# Altium integrated library TI Power Management Linear Regulator Single Channel LDO (400-7500mA).IntLib: 1408 symbols (part 7 of 60)
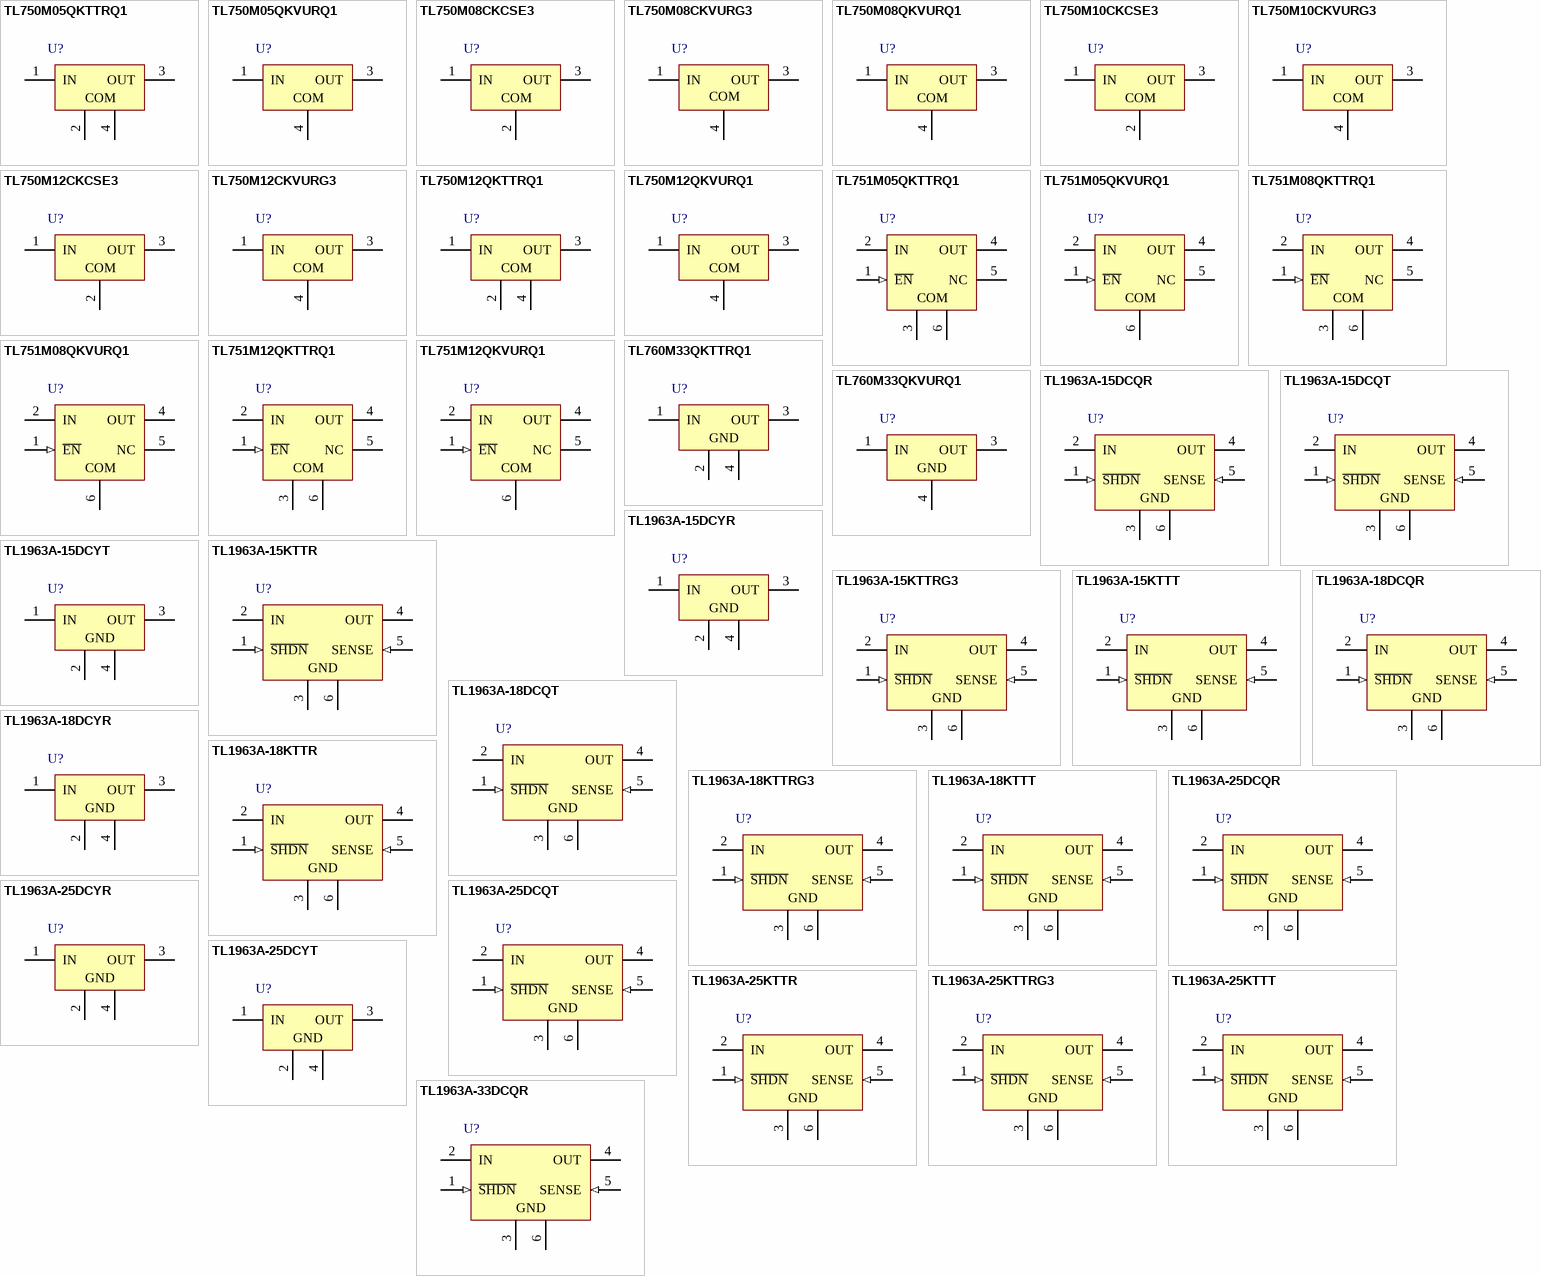
[diagram p56: symbols TL750M05QKTTRQ1 to TL1963A-33DCQR]

## TL1963A-15DCYT
designator U?
Single Output Low Noise LDO, 1.5 A, Fixed 1.5 V Output, 2.1 to 20 V Input, 4-pin SOT-223 (DCY), -40 to 125 degC, Green (RoHS & no Sb/Br); Manufacturer: Texas Instruments; PartNumber: TL1963A-15DCYT; Accuracy(%): 3; Fixed Output Options(V): 1.5; Iq(Typ)(mA): 1; SubFamily: Single Channel LDO; Vdo(Typ)(mV): 340; Vin(Max)(V): 20; Vin(Min)(V): 2.1; DatasheetVersion: SLVS719F; PackageVersion: 4202506/B; PackageReference: DCY4; PackageDescription: 4-Pin Plastic Small Outline, Body 3.5 x 6.5 mm, Pitch 2.3 mm; Supplier 1: Digi-Key; Supplier Part Number 1: TL1963A-15DCYT-ND; Supplier 2: Mouser; Supplier Part Number 2: 595-TL1963A-15DCYT; Eco-Plan: Green (RoHS & no Sb/Br); Iout(Max)(A): 1.5; Vout Adj(Max)(V): 1.5; Vout Adj(Min)(V): 1.5; Mounting Technology: Surface Mount; Code_JEDEC: TO-261; ComponentLink1Description: Manufacturer URL; ComponentLink1URL: http://www.ti.com/; ComponentLink2Description: Datasheet; ComponentLink2URL: http://www.ti.com/general/docs/lit/getliterature.tsp?genericPartNumber=TL1963A-15&fileType=pdf; ComponentLink3Description: Package Specification; ComponentLink3URL: http://www.ti.com/litv/pdf/mpds094a
footprint TI-DCY4_N (SOT223, 4-Leads, Body 6.5x3.5mm, Pitch 2.3mm, IPC Medium Density)
footprint TI-DCY4_L (SOT223, 4-Leads, Body 6.5x3.5mm, Pitch 2.3mm, IPC High Density)
footprint TI-DCY4_M (SOT223, 4-Leads, Body 6.5x3.5mm, Pitch 2.3mm, IPC Low Density)
pins: 1 IN (power) "Input. Power is supplied to the device through the IN pin. A bypass capacitor is required on this pin if the device is more than six inches away from the main input filter capacitor. In general, the output impedance of a (See Datasheet)", 2 GND (power) "Ground", 3 OUT (power) "Output. The output supplies power to the load. A minimum output capacitor (ceramic) of 10 uF is required to prevent oscillations. Larger output capacitors are required for applications with large transient loads to limit (See Datasheet)", 4 GND (power) "Ground"

## TL1963A-15KTTR
designator U?
Single Output Low Noise LDO, 1.5 A, Fixed 1.5 V Output, 2.1 to 20 V Input, 5-pin DDPAK (KTT), -40 to 125 degC, Green (RoHS & no Sb/Br); Manufacturer: Texas Instruments; PartNumber: TL1963A-15KTTR; Accuracy(%): 3; Fixed Output Options(V): 1.5; Iq(Typ)(mA): 1; SubFamily: Single Channel LDO; Vdo(Typ)(mV): 340; Vin(Max)(V): 20; Vin(Min)(V): 2.1; DatasheetVersion: SLVS719F; PackageVersion: 4200577-3/F; PackageReference: KTT5; PackageDescription: 3-Pin Plastic Flange Mount, Body 10.16 x 10.34 mm, Pitch 1.7 mm; Supplier 1: Digi-Key; Supplier Part Number 1: 296-23743-2-ND; Supplier 2: Digi-Key; Supplier Part Number 2: 296-23743-1-ND; Supplier 3: Digi-Key; Supplier Part Number 3: 296-23743-6-ND; Supplier 4: Newark; Supplier Part Number 4: 33R2186; Supplier 5: Mouser; Supplier Part Number 5: 595-TL1963A-15KTTR; Eco-Plan: Green (RoHS & no Sb/Br); Iout(Max)(A): 1.5; Vout Adj(Max)(V): 1.5; Vout Adj(Min)(V): 1.5; Mounting Technology: Surface Mount; Code_JEDEC: TO-263; ComponentLink1Description: Manufacturer URL; ComponentLink1URL: http://www.ti.com/; ComponentLink2Description: Datasheet; ComponentLink2URL: http://www.ti.com/general/docs/lit/getliterature.tsp?genericPartNumber=TL1963A-15&fileType=pdf; ComponentLink3Description: Package Specification; ComponentLink3URL: http://www.ti.com/litv/pdf/mpsf007e
footprint TI-KTT5_N (DPAK, 5-Leads, Body 10.16x8.925mm, Pitch 1.7mm, IPC Medium Density)
footprint TI-KTT5_L (DPAK, 5-Leads, Body 10.16x8.925mm, Pitch 1.7mm, IPC High Density)
footprint TI-KTT5_M (DPAK, 5-Leads, Body 10.16x8.925mm, Pitch 1.7mm, IPC Low Density)
pins: 1 ~{SHDN} (in) "Shutdown. S\H\D\N\ is used to put the TPS7A45xx regulators into a low-power shutdown state. The output is off when S\H\D\N\ is pulled low. S\H\D\N\ can be driven by 5-V logic, 3-V logic or open-collector logic with a pullup  (See Datasheet)", 2 IN (power) "Input. Power is supplied to the device through IN. A bypass capacitor is required on this pin if the device is more than six inches away from the main input filter capacitor. In general, the output impedance of a battery (See Datasheet)", 3 GND (power) "Ground", 4 OUT (power) "Output. The output supplies power to the load. A minimum output capacitor (ceramic) of 10 uF is required to  prevent oscillations. Larger output capacitors are required for applications with large transient loads to limit (See Datasheet)", 5 SENSE (in) "Sense. For fixed-voltage versions (TPS7A4515, TPS7A4518, TPS7A4525, and TPS7A4533), SENSE is the input to the error amplifier. Optimum regulation is obtained at the point where SENSE is connected to the OUT pin of the (See Datasheet)", 6 GND (power) "Ground. DCQ package only."

## TL1963A-15KTTRG3
designator U?
Single Output Low Noise LDO, 1.5 A, Fixed 1.5 V Output, 2.1 to 20 V Input, 5-pin DDPAK (KTT), -40 to 125 degC, Green (RoHS & no Sb/Br); Manufacturer: Texas Instruments; PartNumber: TL1963A-15KTTRG3; Accuracy(%): 3; Fixed Output Options(V): 1.5; Iq(Typ)(mA): 1; SubFamily: Single Channel LDO; Vdo(Typ)(mV): 340; Vin(Max)(V): 20; Vin(Min)(V): 2.1; DatasheetVersion: SLVS719F; PackageVersion: 4200577-3/F; PackageReference: KTT5; PackageDescription: 3-Pin Plastic Flange Mount, Body 10.16 x 10.34 mm, Pitch 1.7 mm; Supplier 1: Digi-Key; Supplier Part Number 1: TL1963A-15KTTRG3-ND; Supplier 2: Mouser; Supplier Part Number 2: 595-TL1963A-15KTTRG3; Eco-Plan: Green (RoHS & no Sb/Br); Iout(Max)(A): 1.5; Vout Adj(Max)(V): 1.5; Vout Adj(Min)(V): 1.5; Mounting Technology: Surface Mount; Code_JEDEC: TO-263; ComponentLink1Description: Manufacturer URL; ComponentLink1URL: http://www.ti.com/; ComponentLink2Description: Datasheet; ComponentLink2URL: http://www.ti.com/general/docs/lit/getliterature.tsp?genericPartNumber=TL1963A-15&fileType=pdf; ComponentLink3Description: Package Specification; ComponentLink3URL: http://www.ti.com/litv/pdf/mpsf007e
footprint TI-KTT5_N (DPAK, 5-Leads, Body 10.16x8.925mm, Pitch 1.7mm, IPC Medium Density)
footprint TI-KTT5_L (DPAK, 5-Leads, Body 10.16x8.925mm, Pitch 1.7mm, IPC High Density)
footprint TI-KTT5_M (DPAK, 5-Leads, Body 10.16x8.925mm, Pitch 1.7mm, IPC Low Density)
pins: 1 ~{SHDN} (in) "Shutdown. S\H\D\N\ is used to put the TPS7A45xx regulators into a low-power shutdown state. The output is off when S\H\D\N\ is pulled low. S\H\D\N\ can be driven by 5-V logic, 3-V logic or open-collector logic with a pullup  (See Datasheet)", 2 IN (power) "Input. Power is supplied to the device through IN. A bypass capacitor is required on this pin if the device is more than six inches away from the main input filter capacitor. In general, the output impedance of a battery (See Datasheet)", 3 GND (power) "Ground", 4 OUT (power) "Output. The output supplies power to the load. A minimum output capacitor (ceramic) of 10 uF is required to  prevent oscillations. Larger output capacitors are required for applications with large transient loads to limit (See Datasheet)", 5 SENSE (in) "Sense. For fixed-voltage versions (TPS7A4515, TPS7A4518, TPS7A4525, and TPS7A4533), SENSE is the input to the error amplifier. Optimum regulation is obtained at the point where SENSE is connected to the OUT pin of the (See Datasheet)", 6 GND (power) "Ground. DCQ package only."

## TL1963A-15KTTT
designator U?
Single Output Low Noise LDO, 1.5 A, Fixed 1.5 V Output, 2.1 to 20 V Input, 5-pin DDPAK (KTT), -40 to 125 degC; Manufacturer: Texas Instruments; PartNumber: TL1963A-15KTTT; Accuracy(%): 3; Fixed Output Options(V): 1.5; Iq(Typ)(mA): 1; SubFamily: Single Channel LDO; Vdo(Typ)(mV): 340; Vin(Max)(V): 20; Vin(Min)(V): 2.1; DatasheetVersion: SLVS719F; PackageVersion: 4200577-3/F; PackageReference: KTT5; PackageDescription: 3-Pin Plastic Flange Mount, Body 10.16 x 10.34 mm, Pitch 1.7 mm; Supplier 1: Mouser; Supplier Part Number 1: N/A; Iout(Max)(A): 1.5; Vout Adj(Max)(V): 1.5; Vout Adj(Min)(V): 1.5; Mounting Technology: Surface Mount; Code_JEDEC: TO-263; ComponentLink1Description: Manufacturer URL; ComponentLink1URL: http://www.ti.com/; ComponentLink2Description: Datasheet; ComponentLink2URL: http://www.ti.com/general/docs/lit/getliterature.tsp?genericPartNumber=TL1963A-15&fileType=pdf; ComponentLink3Description: Package Specification; ComponentLink3URL: http://www.ti.com/litv/pdf/mpsf007e
footprint TI-KTT5_N (DPAK, 5-Leads, Body 10.16x8.925mm, Pitch 1.7mm, IPC Medium Density)
footprint TI-KTT5_L (DPAK, 5-Leads, Body 10.16x8.925mm, Pitch 1.7mm, IPC High Density)
footprint TI-KTT5_M (DPAK, 5-Leads, Body 10.16x8.925mm, Pitch 1.7mm, IPC Low Density)
pins: 1 ~{SHDN} (in) "Shutdown. S\H\D\N\ is used to put the TPS7A45xx regulators into a low-power shutdown state. The output is off when S\H\D\N\ is pulled low. S\H\D\N\ can be driven by 5-V logic, 3-V logic or open-collector logic with a pullup  (See Datasheet)", 2 IN (power) "Input. Power is supplied to the device through IN. A bypass capacitor is required on this pin if the device is more than six inches away from the main input filter capacitor. In general, the output impedance of a battery (See Datasheet)", 3 GND (power) "Ground", 4 OUT (power) "Output. The output supplies power to the load. A minimum output capacitor (ceramic) of 10 uF is required to  prevent oscillations. Larger output capacitors are required for applications with large transient loads to limit (See Datasheet)", 5 SENSE (in) "Sense. For fixed-voltage versions (TPS7A4515, TPS7A4518, TPS7A4525, and TPS7A4533), SENSE is the input to the error amplifier. Optimum regulation is obtained at the point where SENSE is connected to the OUT pin of the (See Datasheet)", 6 GND (power) "Ground. DCQ package only."

## TL1963A-18DCQR
designator U?
Single Output Low Noise LDO, 1.5 A, Fixed 1.8 V Output, 2.1 to 20 V Input, 6-pin SOT-223 (DCQ), -40 to 125 degC, Green (RoHS & no Sb/Br); Manufacturer: Texas Instruments; PartNumber: TL1963A-18DCQR; Accuracy(%): 3; Fixed Output Options(V): 1.8; Iout(Max)(A): 1.5; Iq(Typ)(mA): 1; SubFamily: Single Channel LDO; Vdo(Typ)(mV): 340; Vin(Max)(V): 20; Vin(Min)(V): 2.1; DatasheetVersion: SLVS719F; PackageVersion: 4202109/D; PackageReference: DCQ6; PackageDescription: 6-Pin Plastic Small Outline, Body 3.5 x 6.5 mm, Pitch 1.27 mm; Supplier 1: Digi-Key; Supplier Part Number 1: 296-24532-2-ND; Supplier 2: Digi-Key; Supplier Part Number 2: 296-24532-1-ND; Supplier 3: Digi-Key; Supplier Part Number 3: 296-24532-6-ND; Supplier 4: Newark; Supplier Part Number 4: 25R0008; Supplier 5: Mouser; Supplier Part Number 5: 595-TL1963A-18DCQR; Eco-Plan: Green (RoHS & no Sb/Br); Vout Adj(Max)(V): 1.8; Vout Adj(Min)(V): 1.8; Mounting Technology: Surface Mount; ComponentLink1Description: Manufacturer URL; ComponentLink1URL: http://www.ti.com/; ComponentLink2Description: Datasheet; ComponentLink2URL: http://www.ti.com/general/docs/lit/getliterature.tsp?genericPartNumber=TL1963A-18&fileType=pdf; ComponentLink3Description: Package Specification; ComponentLink3URL: http://www.ti.com/litv/pdf/mpds098c
footprint TI-DCQ6_N (SOT223, 6-Leads, Body 6.5x3.5mm, Pitch 1.27mm, IPC Medium Density)
footprint TI-DCQ6_L (SOT223, 6-Leads, Body 6.5x3.5mm, Pitch 1.27mm, IPC High Density)
footprint TI-DCQ6_M (SOT223, 6-Leads, Body 6.5x3.5mm, Pitch 1.27mm, IPC Low Density)
pins: 1 ~{SHDN} (in) "Shutdown. S\H\D\N\ is used to put the TPS7A45xx regulators into a low-power shutdown state. The output is off when S\H\D\N\ is pulled low. S\H\D\N\ can be driven by 5-V logic, 3-V logic or open-collector logic with a pullup  (See Datasheet)", 2 IN (power) "Input. Power is supplied to the device through IN. A bypass capacitor is required on this pin if the device is more than six inches away from the main input filter capacitor. In general, the output impedance of a battery (See Datasheet)", 3 GND (power) "Ground", 4 OUT (power) "Output. The output supplies power to the load. A minimum output capacitor (ceramic) of 10 uF is required to  prevent oscillations. Larger output capacitors are required for applications with large transient loads to limit (See Datasheet)", 5 SENSE (in) "Sense. For fixed-voltage versions (TPS7A4515, TPS7A4518, TPS7A4525, and TPS7A4533), SENSE is the input to the error amplifier. Optimum regulation is obtained at the point where SENSE is connected to the OUT pin of the (See Datasheet)", 6 GND (power) "Ground. DCQ package only."

## TL1963A-18DCQT
designator U?
Single Output Low Noise LDO, 1.5 A, Fixed 1.8 V Output, 2.1 to 20 V Input, 6-pin SOT-223 (DCQ), Green (RoHS & no Sb/Br); Manufacturer: Texas Instruments; PartNumber: TL1963A-18DCQT; Accuracy(%): 3; Fixed Output Options(V): 1.8; Iout(Max)(A): 1.5; Iq(Typ)(mA): 1; SubFamily: Single Channel LDO; Vdo(Typ)(mV): 340; Vin(Max)(V): 20; Vin(Min)(V): 2.1; DatasheetVersion: SLVS719F; PackageVersion: 4202109/D; PackageReference: DCQ6; PackageDescription: 6-Pin Plastic Small Outline, Body 3.5 x 6.5 mm, Pitch 1.27 mm; Supplier 1: Digi-Key; Supplier Part Number 1: TL1963A-18DCQT-ND; Supplier 2: Mouser; Supplier Part Number 2: 595-TL1963A-18DCQT; Eco-Plan: Green (RoHS & no Sb/Br); Vout Adj(Max)(V): 1.8; Vout Adj(Min)(V): 1.8; Mounting Technology: Surface Mount; ComponentLink1Description: Manufacturer URL; ComponentLink1URL: http://www.ti.com/; ComponentLink2Description: Datasheet; ComponentLink2URL: http://www.ti.com/general/docs/lit/getliterature.tsp?genericPartNumber=TL1963A-18&fileType=pdf; ComponentLink3Description: Package Specification; ComponentLink3URL: http://www.ti.com/litv/pdf/mpds098c
footprint TI-DCQ6_N (SOT223, 6-Leads, Body 6.5x3.5mm, Pitch 1.27mm, IPC Medium Density)
footprint TI-DCQ6_L (SOT223, 6-Leads, Body 6.5x3.5mm, Pitch 1.27mm, IPC High Density)
footprint TI-DCQ6_M (SOT223, 6-Leads, Body 6.5x3.5mm, Pitch 1.27mm, IPC Low Density)
pins: 1 ~{SHDN} (in) "Shutdown. S\H\D\N\ is used to put the TPS7A45xx regulators into a low-power shutdown state. The output is off when S\H\D\N\ is pulled low. S\H\D\N\ can be driven by 5-V logic, 3-V logic or open-collector logic with a pullup  (See Datasheet)", 2 IN (power) "Input. Power is supplied to the device through IN. A bypass capacitor is required on this pin if the device is more than six inches away from the main input filter capacitor. In general, the output impedance of a battery (See Datasheet)", 3 GND (power) "Ground", 4 OUT (power) "Output. The output supplies power to the load. A minimum output capacitor (ceramic) of 10 uF is required to  prevent oscillations. Larger output capacitors are required for applications with large transient loads to limit (See Datasheet)", 5 SENSE (in) "Sense. For fixed-voltage versions (TPS7A4515, TPS7A4518, TPS7A4525, and TPS7A4533), SENSE is the input to the error amplifier. Optimum regulation is obtained at the point where SENSE is connected to the OUT pin of the (See Datasheet)", 6 GND (power) "Ground. DCQ package only."

## TL1963A-18DCYR
designator U?
Single Output Low Noise LDO, 1.5 A, Fixed 1.8 V Output, 2.1 to 20 V Input, 4-pin SOT-223 (DCY), -40 to 125 degC, Green (RoHS & no Sb/Br); Manufacturer: Texas Instruments; PartNumber: TL1963A-18DCYR; Accuracy(%): 3; Fixed Output Options(V): 1.8; Iout(Max)(A): 1.5; Iq(Typ)(mA): 1; SubFamily: Single Channel LDO; Vdo(Typ)(mV): 340; Vin(Max)(V): 20; Vin(Min)(V): 2.1; DatasheetVersion: SLVS719F; PackageVersion: 4202506/B; PackageReference: DCY4; PackageDescription: 4-Pin Plastic Small Outline, Body 3.5 x 6.5 mm, Pitch 2.3 mm; Supplier 1: Digi-Key; Supplier Part Number 1: 296-24895-2-ND; Supplier 2: Digi-Key; Supplier Part Number 2: 296-24895-1-ND; Supplier 3: Digi-Key; Supplier Part Number 3: 296-24895-6-ND; Supplier 4: Newark; Supplier Part Number 4: 50R8017; Supplier 5: Mouser; Supplier Part Number 5: 595-TL1963A-18DCYR; Eco-Plan: Green (RoHS & no Sb/Br); Vout Adj(Max)(V): 1.8; Vout Adj(Min)(V): 1.8; Mounting Technology: Surface Mount; Code_JEDEC: TO-261; ComponentLink1Description: Manufacturer URL; ComponentLink1URL: http://www.ti.com/; ComponentLink2Description: Datasheet; ComponentLink2URL: http://www.ti.com/general/docs/lit/getliterature.tsp?genericPartNumber=TL1963A-18&fileType=pdf; ComponentLink3Description: Package Specification; ComponentLink3URL: http://www.ti.com/litv/pdf/mpds094a
footprint TI-DCY4_N (SOT223, 4-Leads, Body 6.5x3.5mm, Pitch 2.3mm, IPC Medium Density)
footprint TI-DCY4_L (SOT223, 4-Leads, Body 6.5x3.5mm, Pitch 2.3mm, IPC High Density)
footprint TI-DCY4_M (SOT223, 4-Leads, Body 6.5x3.5mm, Pitch 2.3mm, IPC Low Density)
pins: 1 IN (power) "Input. Power is supplied to the device through the IN pin. A bypass capacitor is required on this pin if the device is more than six inches away from the main input filter capacitor. In general, the output impedance of a (See Datasheet)", 2 GND (power) "Ground", 3 OUT (power) "Output. The output supplies power to the load. A minimum output capacitor (ceramic) of 10 uF is required to prevent oscillations. Larger output capacitors are required for applications with large transient loads to limit (See Datasheet)", 4 GND (power) "Ground"

## TL1963A-18KTTR
designator U?
Single Output Low Noise LDO, 1.5 A, Fixed 1.8 V Output, 2.1 to 20 V Input, 5-pin DDPAK (KTT), -40 to 125 degC, Green (RoHS & no Sb/Br); Manufacturer: Texas Instruments; PartNumber: TL1963A-18KTTR; Accuracy(%): 3; Fixed Output Options(V): 1.8; Iout(Max)(A): 1.5; Iq(Typ)(mA): 1; SubFamily: Single Channel LDO; Vdo(Typ)(mV): 340; Vin(Max)(V): 20; Vin(Min)(V): 2.1; DatasheetVersion: SLVS719F; PackageVersion: 4200577-3/F; PackageReference: KTT5; PackageDescription: 3-Pin Plastic Flange Mount, Body 10.16 x 10.34 mm, Pitch 1.7 mm; Supplier 1: Digi-Key; Supplier Part Number 1: 296-23744-2-ND; Supplier 2: Digi-Key; Supplier Part Number 2: 296-23744-1-ND; Supplier 3: Digi-Key; Supplier Part Number 3: 296-23744-6-ND; Supplier 4: Newark; Supplier Part Number 4: 33R2187; Supplier 5: Mouser; Supplier Part Number 5: 595-TL1963A-18KTTR; Eco-Plan: Green (RoHS & no Sb/Br); Vout Adj(Max)(V): 1.8; Vout Adj(Min)(V): 1.8; Mounting Technology: Surface Mount; Code_JEDEC: TO-263; ComponentLink1Description: Manufacturer URL; ComponentLink1URL: http://www.ti.com/; ComponentLink2Description: Datasheet; ComponentLink2URL: http://www.ti.com/general/docs/lit/getliterature.tsp?genericPartNumber=TL1963A-18&fileType=pdf; ComponentLink3Description: Package Specification; ComponentLink3URL: http://www.ti.com/litv/pdf/mpsf007e
footprint TI-KTT5_N (DPAK, 5-Leads, Body 10.16x8.925mm, Pitch 1.7mm, IPC Medium Density)
footprint TI-KTT5_L (DPAK, 5-Leads, Body 10.16x8.925mm, Pitch 1.7mm, IPC High Density)
footprint TI-KTT5_M (DPAK, 5-Leads, Body 10.16x8.925mm, Pitch 1.7mm, IPC Low Density)
pins: 1 ~{SHDN} (in) "Shutdown. The S\H\D\N\ pin is used to put the TL1963A-xx regulators into a low-power shutdown state. The output is off when the S\H\D\N\ pin is pulled low. The S\H\D\N\ pin can be driven either by 5-V logic or open-collector (See Datasheet)", 2 IN (power) "Input. Power is supplied to the device through the IN pin. A bypass capacitor is required on this pin if the device is more than six inches away from the main input filter capacitor. In general, the output impedance of a (See Datasheet)", 3 GND (power) "Ground", 4 OUT (power) "Output. The output supplies power to the load. A minimum output capacitor (ceramic) of 10 uF is required to prevent oscillations. Larger output capacitors are required for applications with large transient loads to limit (See Datasheet)", 5 SENSE (in) "Sense. For fixed voltage versions of the TL1963A-xx (TL1963A-1.5, TL1963A-1.8,TL1963A-2.5, and TL1963A-3.3), the SENSE pin is the input to the error amplifier. Optimum regulation is obtained at the point where the SENSE pin (See Datasheet)", 6 GND (power) "For the KTT package, the exposed thermal pad is connected to ground and must be soldered to the PCB for rated thermal performance."

## TL1963A-18KTTRG3
designator U?
Single Output Low Noise LDO, 1.5 A, Fixed 1.8 V Output, 2.1 to 20 V Input, 5-pin DDPAK (KTT), -40 to 125 degC, Green (RoHS & no Sb/Br); Manufacturer: Texas Instruments; PartNumber: TL1963A-18KTTRG3; Accuracy(%): 3; Fixed Output Options(V): 1.8; Iout(Max)(A): 1.5; Iq(Typ)(mA): 1; SubFamily: Single Channel LDO; Vdo(Typ)(mV): 340; Vin(Max)(V): 20; Vin(Min)(V): 2.1; DatasheetVersion: SLVS719F; PackageVersion: 4200577-3/F; PackageReference: KTT5; PackageDescription: 3-Pin Plastic Flange Mount, Body 10.16 x 10.34 mm, Pitch 1.7 mm; Supplier 1: Digi-Key; Supplier Part Number 1: TL1963A-18KTTRG3-ND; Supplier 2: Mouser; Supplier Part Number 2: 595-TL1963A-18KTTRG3; Eco-Plan: Green (RoHS & no Sb/Br); Vout Adj(Max)(V): 1.8; Vout Adj(Min)(V): 1.8; Mounting Technology: Surface Mount; Code_JEDEC: TO-263; ComponentLink1Description: Manufacturer URL; ComponentLink1URL: http://www.ti.com/; ComponentLink2Description: Datasheet; ComponentLink2URL: http://www.ti.com/general/docs/lit/getliterature.tsp?genericPartNumber=TL1963A-18&fileType=pdf; ComponentLink3Description: Package Specification; ComponentLink3URL: http://www.ti.com/litv/pdf/mpsf007e
footprint TI-KTT5_N (DPAK, 5-Leads, Body 10.16x8.925mm, Pitch 1.7mm, IPC Medium Density)
footprint TI-KTT5_L (DPAK, 5-Leads, Body 10.16x8.925mm, Pitch 1.7mm, IPC High Density)
footprint TI-KTT5_M (DPAK, 5-Leads, Body 10.16x8.925mm, Pitch 1.7mm, IPC Low Density)
pins: 1 ~{SHDN} (in) "Shutdown. The S\H\D\N\ pin is used to put the TL1963A-xx regulators into a low-power shutdown state. The output is off when the S\H\D\N\ pin is pulled low. The S\H\D\N\ pin can be driven either by 5-V logic or open-collector (See Datasheet)", 2 IN (power) "Input. Power is supplied to the device through the IN pin. A bypass capacitor is required on this pin if the device is more than six inches away from the main input filter capacitor. In general, the output impedance of a (See Datasheet)", 3 GND (power) "Ground", 4 OUT (power) "Output. The output supplies power to the load. A minimum output capacitor (ceramic) of 10 uF is required to prevent oscillations. Larger output capacitors are required for applications with large transient loads to limit (See Datasheet)", 5 SENSE (in) "Sense. For fixed voltage versions of the TL1963A-xx (TL1963A-1.5, TL1963A-1.8,TL1963A-2.5, and TL1963A-3.3), the SENSE pin is the input to the error amplifier. Optimum regulation is obtained at the point where the SENSE pin (See Datasheet)", 6 GND (power) "For the KTT package, the exposed thermal pad is connected to ground and must be soldered to the PCB for rated thermal performance."

## TL1963A-18KTTT
designator U?
Single Output Low Noise LDO, 1.5 A, Fixed 1.8 V Output, 2.1 to 20 V Input, 5-pin DDPAK (KTT), -40 to 125 degC; Manufacturer: Texas Instruments; PartNumber: TL1963A-18KTTT; Accuracy(%): 3; Fixed Output Options(V): 1.8; Iout(Max)(A): 1.5; Iq(Typ)(mA): 1; SubFamily: Single Channel LDO; Vdo(Typ)(mV): 340; Vin(Max)(V): 20; Vin(Min)(V): 2.1; DatasheetVersion: SLVS719F; PackageVersion: 4200577-3/F; PackageReference: KTT5; PackageDescription: 3-Pin Plastic Flange Mount, Body 10.16 x 10.34 mm, Pitch 1.7 mm; Supplier 1: Mouser; Supplier Part Number 1: N/A; Vout Adj(Max)(V): 1.8; Vout Adj(Min)(V): 1.8; Mounting Technology: Surface Mount; Code_JEDEC: TO-263; ComponentLink1Description: Manufacturer URL; ComponentLink1URL: http://www.ti.com/; ComponentLink2Description: Datasheet; ComponentLink2URL: http://www.ti.com/general/docs/lit/getliterature.tsp?genericPartNumber=TL1963A-18&fileType=pdf; ComponentLink3Description: Package Specification; ComponentLink3URL: http://www.ti.com/litv/pdf/mpsf007e
footprint TI-KTT5_N (DPAK, 5-Leads, Body 10.16x8.925mm, Pitch 1.7mm, IPC Medium Density)
footprint TI-KTT5_L (DPAK, 5-Leads, Body 10.16x8.925mm, Pitch 1.7mm, IPC High Density)
footprint TI-KTT5_M (DPAK, 5-Leads, Body 10.16x8.925mm, Pitch 1.7mm, IPC Low Density)
pins: 1 ~{SHDN} (in) "Shutdown. The S\H\D\N\ pin is used to put the TL1963A-xx regulators into a low-power shutdown state. The output is off when the S\H\D\N\ pin is pulled low. The S\H\D\N\ pin can be driven either by 5-V logic or open-collector (See Datasheet)", 2 IN (power) "Input. Power is supplied to the device through the IN pin. A bypass capacitor is required on this pin if the device is more than six inches away from the main input filter capacitor. In general, the output impedance of a (See Datasheet)", 3 GND (power) "Ground", 4 OUT (power) "Output. The output supplies power to the load. A minimum output capacitor (ceramic) of 10 uF is required to prevent oscillations. Larger output capacitors are required for applications with large transient loads to limit (See Datasheet)", 5 SENSE (in) "Sense. For fixed voltage versions of the TL1963A-xx (TL1963A-1.5, TL1963A-1.8,TL1963A-2.5, and TL1963A-3.3), the SENSE pin is the input to the error amplifier. Optimum regulation is obtained at the point where the SENSE pin (See Datasheet)", 6 GND (power) "For the KTT package, the exposed thermal pad is connected to ground and must be soldered to the PCB for rated thermal performance."

## TL1963A-25DCQR
designator U?
Single Output Low Noise LDO, 1.5 A, Fixed 2.5 V Output, 2.1 to 20 V Input, 6-pin SOT-223 (DCQ), -40 to 125 degC, Green (RoHS & no Sb/Br); Manufacturer: Texas Instruments; PartNumber: TL1963A-25DCQR; Accuracy(%): 3; Fixed Output Options(V): 2.5; Iout(Max)(A): 1.5; Iq(Typ)(mA): 1; SubFamily: Single Channel LDO; Vdo(Typ)(mV): 340; Vin(Max)(V): 20; Vin(Min)(V): 2.1; DatasheetVersion: SLVS719F; PackageVersion: 4202109/D; PackageReference: DCQ6; PackageDescription: 6-Pin Plastic Small Outline, Body 3.5 x 6.5 mm, Pitch 1.27 mm; Supplier 1: Digi-Key; Supplier Part Number 1: 296-24533-2-ND; Supplier 2: Digi-Key; Supplier Part Number 2: 296-24533-1-ND; Supplier 3: Digi-Key; Supplier Part Number 3: 296-24533-6-ND; Supplier 4: Mouser; Supplier Part Number 4: 595-TL1963A-25DCQR; Eco-Plan: Green (RoHS & no Sb/Br); Vout Adj(Max)(V): 2.5; Vout Adj(Min)(V): 2.5; Mounting Technology: Surface Mount; ComponentLink1Description: Manufacturer URL; ComponentLink1URL: http://www.ti.com/; ComponentLink2Description: Datasheet; ComponentLink2URL: http://www.ti.com/general/docs/lit/getliterature.tsp?genericPartNumber=TL1963A-25&fileType=pdf; ComponentLink3Description: Package Specification; ComponentLink3URL: http://www.ti.com/litv/pdf/mpds098c
footprint TI-DCQ6_N (SOT223, 6-Leads, Body 6.5x3.5mm, Pitch 1.27mm, IPC Medium Density)
footprint TI-DCQ6_L (SOT223, 6-Leads, Body 6.5x3.5mm, Pitch 1.27mm, IPC High Density)
footprint TI-DCQ6_M (SOT223, 6-Leads, Body 6.5x3.5mm, Pitch 1.27mm, IPC Low Density)
pins: 1 ~{SHDN} (in) "Shutdown. S\H\D\N\ is used to put the TPS7A45xx regulators into a low-power shutdown state. The output is off when S\H\D\N\ is pulled low. S\H\D\N\ can be driven by 5-V logic, 3-V logic or open-collector logic with a pullup  (See Datasheet)", 2 IN (power) "Input. Power is supplied to the device through IN. A bypass capacitor is required on this pin if the device is more than six inches away from the main input filter capacitor. In general, the output impedance of a battery (See Datasheet)", 3 GND (power) "Ground", 4 OUT (power) "Output. The output supplies power to the load. A minimum output capacitor (ceramic) of 10 uF is required to  prevent oscillations. Larger output capacitors are required for applications with large transient loads to limit (See Datasheet)", 5 SENSE (in) "Sense. For fixed-voltage versions (TPS7A4515, TPS7A4518, TPS7A4525, and TPS7A4533), SENSE is the input to the error amplifier. Optimum regulation is obtained at the point where SENSE is connected to the OUT pin of the (See Datasheet)", 6 GND (power) "Ground. DCQ package only."

## TL1963A-25DCQT
designator U?
Single Output Low Noise LDO, 1.5 A, Fixed 2.5 V Output, 2.1 to 20 V Input, 6-pin SOT-223 (DCQ), -40 to 125 degC, Green (RoHS & no Sb/Br); Manufacturer: Texas Instruments; PartNumber: TL1963A-25DCQT; Accuracy(%): 3; Fixed Output Options(V): 2.5; Iout(Max)(A): 1.5; Iq(Typ)(mA): 1; SubFamily: Single Channel LDO; Vdo(Typ)(mV): 340; Vin(Max)(V): 20; Vin(Min)(V): 2.1; DatasheetVersion: SLVS719F; PackageVersion: 4202109/D; PackageReference: DCQ6; PackageDescription: 6-Pin Plastic Small Outline, Body 3.5 x 6.5 mm, Pitch 1.27 mm; Supplier 1: Digi-Key; Supplier Part Number 1: TL1963A-25DCQT-ND; Supplier 2: Mouser; Supplier Part Number 2: 595-TL1963A-25DCQT; Eco-Plan: Green (RoHS & no Sb/Br); Vout Adj(Max)(V): 2.5; Vout Adj(Min)(V): 2.5; Mounting Technology: Surface Mount; ComponentLink1Description: Manufacturer URL; ComponentLink1URL: http://www.ti.com/; ComponentLink2Description: Datasheet; ComponentLink2URL: http://www.ti.com/general/docs/lit/getliterature.tsp?genericPartNumber=TL1963A-25&fileType=pdf; ComponentLink3Description: Package Specification; ComponentLink3URL: http://www.ti.com/litv/pdf/mpds098c
footprint TI-DCQ6_N (SOT223, 6-Leads, Body 6.5x3.5mm, Pitch 1.27mm, IPC Medium Density)
footprint TI-DCQ6_L (SOT223, 6-Leads, Body 6.5x3.5mm, Pitch 1.27mm, IPC High Density)
footprint TI-DCQ6_M (SOT223, 6-Leads, Body 6.5x3.5mm, Pitch 1.27mm, IPC Low Density)
pins: 1 ~{SHDN} (in) "Shutdown. S\H\D\N\ is used to put the TPS7A45xx regulators into a low-power shutdown state. The output is off when S\H\D\N\ is pulled low. S\H\D\N\ can be driven by 5-V logic, 3-V logic or open-collector logic with a pullup  (See Datasheet)", 2 IN (power) "Input. Power is supplied to the device through IN. A bypass capacitor is required on this pin if the device is more than six inches away from the main input filter capacitor. In general, the output impedance of a battery (See Datasheet)", 3 GND (power) "Ground", 4 OUT (power) "Output. The output supplies power to the load. A minimum output capacitor (ceramic) of 10 uF is required to  prevent oscillations. Larger output capacitors are required for applications with large transient loads to limit (See Datasheet)", 5 SENSE (in) "Sense. For fixed-voltage versions (TPS7A4515, TPS7A4518, TPS7A4525, and TPS7A4533), SENSE is the input to the error amplifier. Optimum regulation is obtained at the point where SENSE is connected to the OUT pin of the (See Datasheet)", 6 GND (power) "Ground. DCQ package only."

## TL1963A-25DCYR
designator U?
Single Output Low Noise LDO, 1.5 A, Fixed 2.5 V Output, 2.1 to 20 V Input, 4-pin SOT-223 (DCY), -40 to 125 degC, Green (RoHS & no Sb/Br); Manufacturer: Texas Instruments; PartNumber: TL1963A-25DCYR; Accuracy(%): 3; Fixed Output Options(V): 2.5; Iout(Max)(A): 1.5; Iq(Typ)(mA): 1; SubFamily: Single Channel LDO; Vdo(Typ)(mV): 340; Vin(Max)(V): 20; Vin(Min)(V): 2.1; DatasheetVersion: SLVS719F; PackageVersion: 4202506/B; PackageReference: DCY4; PackageDescription: 4-Pin Plastic Small Outline, Body 3.5 x 6.5 mm, Pitch 2.3 mm; Supplier 1: Digi-Key; Supplier Part Number 1: 296-24896-2-ND; Supplier 2: Digi-Key; Supplier Part Number 2: 296-24896-1-ND; Supplier 3: Digi-Key; Supplier Part Number 3: 296-24896-6-ND; Supplier 4: Newark; Supplier Part Number 4: 50R8018; Supplier 5: Mouser; Supplier Part Number 5: 595-TL1963A-25DCYR; Eco-Plan: Green (RoHS & no Sb/Br); Vout Adj(Max)(V): 2.5; Vout Adj(Min)(V): 2.5; Mounting Technology: Surface Mount; Code_JEDEC: TO-261; ComponentLink1Description: Manufacturer URL; ComponentLink1URL: http://www.ti.com/; ComponentLink2Description: Datasheet; ComponentLink2URL: http://www.ti.com/general/docs/lit/getliterature.tsp?genericPartNumber=TL1963A-25&fileType=pdf; ComponentLink3Description: Package Specification; ComponentLink3URL: http://www.ti.com/litv/pdf/mpds094a
footprint TI-DCY4_N (SOT223, 4-Leads, Body 6.5x3.5mm, Pitch 2.3mm, IPC Medium Density)
footprint TI-DCY4_L (SOT223, 4-Leads, Body 6.5x3.5mm, Pitch 2.3mm, IPC High Density)
footprint TI-DCY4_M (SOT223, 4-Leads, Body 6.5x3.5mm, Pitch 2.3mm, IPC Low Density)
pins: 1 IN (power) "Input. Power is supplied to the device through the IN pin. A bypass capacitor is required on this pin if the device is more than six inches away from the main input filter capacitor. In general, the output impedance of a (See Datasheet)", 2 GND (power) "Ground", 3 OUT (power) "Output. The output supplies power to the load. A minimum output capacitor (ceramic) of 10 uF is required to prevent oscillations. Larger output capacitors are required for applications with large transient loads to limit (See Datasheet)", 4 GND (power) "Ground"

## TL1963A-25DCYT
designator U?
Single Output Low Noise LDO, 1.5 A, Fixed 2.5 V Output, 2.1 to 20 V Input, 4-pin SOT-223 (DCY), -40 to 125 degC, Green (RoHS & no Sb/Br); Manufacturer: Texas Instruments; PartNumber: TL1963A-25DCYT; Accuracy(%): 3; Fixed Output Options(V): 2.5; Iout(Max)(A): 1.5; Iq(Typ)(mA): 1; SubFamily: Single Channel LDO; Vdo(Typ)(mV): 340; Vin(Max)(V): 20; Vin(Min)(V): 2.1; DatasheetVersion: SLVS719F; PackageVersion: 4202506/B; PackageReference: DCY4; PackageDescription: 4-Pin Plastic Small Outline, Body 3.5 x 6.5 mm, Pitch 2.3 mm; Supplier 1: Digi-Key; Supplier Part Number 1: 296-32341-2-ND; Supplier 2: Digi-Key; Supplier Part Number 2: 296-32341-1-ND; Supplier 3: Digi-Key; Supplier Part Number 3: 296-32341-6-ND; Supplier 4: Mouser; Supplier Part Number 4: 595-TL1963A-25DCYT; Eco-Plan: Green (RoHS & no Sb/Br); Vout Adj(Max)(V): 2.5; Vout Adj(Min)(V): 2.5; Mounting Technology: Surface Mount; Code_JEDEC: TO-261; ComponentLink1Description: Manufacturer URL; ComponentLink1URL: http://www.ti.com/; ComponentLink2Description: Datasheet; ComponentLink2URL: http://www.ti.com/general/docs/lit/getliterature.tsp?genericPartNumber=TL1963A-25&fileType=pdf; ComponentLink3Description: Package Specification; ComponentLink3URL: http://www.ti.com/litv/pdf/mpds094a
footprint TI-DCY4_N (SOT223, 4-Leads, Body 6.5x3.5mm, Pitch 2.3mm, IPC Medium Density)
footprint TI-DCY4_L (SOT223, 4-Leads, Body 6.5x3.5mm, Pitch 2.3mm, IPC High Density)
footprint TI-DCY4_M (SOT223, 4-Leads, Body 6.5x3.5mm, Pitch 2.3mm, IPC Low Density)
pins: 1 IN (power) "Input. Power is supplied to the device through the IN pin. A bypass capacitor is required on this pin if the device is more than six inches away from the main input filter capacitor. In general, the output impedance of a (See Datasheet)", 2 GND (power) "Ground", 3 OUT (power) "Output. The output supplies power to the load. A minimum output capacitor (ceramic) of 10 uF is required to prevent oscillations. Larger output capacitors are required for applications with large transient loads to limit (See Datasheet)", 4 GND (power) "Ground"

## TL1963A-25KTTR
designator U?
Single Output Low Noise LDO, 1.5 A, Fixed 2.5 V Output, 2.1 to 20 V Input, 5-pin DDPAK (KTT), -40 to 125 degC, Green (RoHS & no Sb/Br); Manufacturer: Texas Instruments; PartNumber: TL1963A-25KTTR; Accuracy(%): 3; Fixed Output Options(V): 2.5; Iout(Max)(A): 1.5; Iq(Typ)(mA): 1; SubFamily: Single Channel LDO; Vdo(Typ)(mV): 340; Vin(Max)(V): 20; Vin(Min)(V): 2.1; DatasheetVersion: SLVS719F; PackageVersion: 4200577-3/F; PackageReference: KTT5; PackageDescription: 3-Pin Plastic Flange Mount, Body 10.16 x 10.34 mm, Pitch 1.7 mm; Supplier 1: Digi-Key; Supplier Part Number 1: 296-23745-2-ND; Supplier 2: Digi-Key; Supplier Part Number 2: 296-23745-1-ND; Supplier 3: Digi-Key; Supplier Part Number 3: 296-23745-6-ND; Supplier 4: Farnell; Supplier Part Number 4: 1772001; Supplier 5: Newark; Supplier Part Number 5: 33R2188; Supplier 6: Mouser; Supplier Part Number 6: 595-TL1963A-25KTTR; Eco-Plan: Green (RoHS & no Sb/Br); Vout Adj(Max)(V): 2.5; Vout Adj(Min)(V): 2.5; Mounting Technology: Surface Mount; Code_JEDEC: TO-263; ComponentLink1Description: Manufacturer URL; ComponentLink1URL: http://www.ti.com/; ComponentLink2Description: Datasheet; ComponentLink2URL: http://www.ti.com/general/docs/lit/getliterature.tsp?genericPartNumber=TL1963A-25&fileType=pdf; ComponentLink3Description: Package Specification; ComponentLink3URL: http://www.ti.com/litv/pdf/mpsf007e
footprint TI-KTT5_N (DPAK, 5-Leads, Body 10.16x8.925mm, Pitch 1.7mm, IPC Medium Density)
footprint TI-KTT5_L (DPAK, 5-Leads, Body 10.16x8.925mm, Pitch 1.7mm, IPC High Density)
footprint TI-KTT5_M (DPAK, 5-Leads, Body 10.16x8.925mm, Pitch 1.7mm, IPC Low Density)
pins: 1 ~{SHDN} (in) "Shutdown. The S\H\D\N\ pin is used to put the TL1963A-xx regulators into a low-power shutdown state. The output is off when the S\H\D\N\ pin is pulled low. The S\H\D\N\ pin can be driven either by 5-V logic or open-collector (See Datasheet)", 2 IN (power) "Input. Power is supplied to the device through the IN pin. A bypass capacitor is required on this pin if the device is more than six inches away from the main input filter capacitor. In general, the output impedance of a (See Datasheet)", 3 GND (power) "Ground", 4 OUT (power) "Output. The output supplies power to the load. A minimum output capacitor (ceramic) of 10 uF is required to prevent oscillations. Larger output capacitors are required for applications with large transient loads to limit (See Datasheet)", 5 SENSE (in) "Sense. For fixed voltage versions of the TL1963A-xx (TL1963A-1.5, TL1963A-1.8,TL1963A-2.5, and TL1963A-3.3), the SENSE pin is the input to the error amplifier. Optimum regulation is obtained at the point where the SENSE pin (See Datasheet)", 6 GND (power) "For the KTT package, the exposed thermal pad is connected to ground and must be soldered to the PCB for rated thermal performance."

## TL1963A-25KTTRG3
designator U?
Single Output Low Noise LDO, 1.5 A, Fixed 2.5 V Output, 2.1 to 20 V Input, 5-pin DDPAK (KTT), -40 to 125 degC, Green (RoHS & no Sb/Br); Manufacturer: Texas Instruments; PartNumber: TL1963A-25KTTRG3; Accuracy(%): 3; Fixed Output Options(V): 2.5; Iout(Max)(A): 1.5; Iq(Typ)(mA): 1; SubFamily: Single Channel LDO; Vdo(Typ)(mV): 340; Vin(Max)(V): 20; Vin(Min)(V): 2.1; DatasheetVersion: SLVS719F; PackageVersion: 4200577-3/F; PackageReference: KTT5; PackageDescription: 3-Pin Plastic Flange Mount, Body 10.16 x 10.34 mm, Pitch 1.7 mm; Supplier 1: Digi-Key; Supplier Part Number 1: TL1963A-25KTTRG3-ND; Supplier 2: Mouser; Supplier Part Number 2: 595-TL1963A-25KTTRG3; Eco-Plan: Green (RoHS & no Sb/Br); Vout Adj(Max)(V): 2.5; Vout Adj(Min)(V): 2.5; Mounting Technology: Surface Mount; Code_JEDEC: TO-263; ComponentLink1Description: Manufacturer URL; ComponentLink1URL: http://www.ti.com/; ComponentLink2Description: Datasheet; ComponentLink2URL: http://www.ti.com/general/docs/lit/getliterature.tsp?genericPartNumber=TL1963A-25&fileType=pdf; ComponentLink3Description: Package Specification; ComponentLink3URL: http://www.ti.com/litv/pdf/mpsf007e
footprint TI-KTT5_N (DPAK, 5-Leads, Body 10.16x8.925mm, Pitch 1.7mm, IPC Medium Density)
footprint TI-KTT5_L (DPAK, 5-Leads, Body 10.16x8.925mm, Pitch 1.7mm, IPC High Density)
footprint TI-KTT5_M (DPAK, 5-Leads, Body 10.16x8.925mm, Pitch 1.7mm, IPC Low Density)
pins: 1 ~{SHDN} (in) "Shutdown. The S\H\D\N\ pin is used to put the TL1963A-xx regulators into a low-power shutdown state. The output is off when the S\H\D\N\ pin is pulled low. The S\H\D\N\ pin can be driven either by 5-V logic or open-collector (See Datasheet)", 2 IN (power) "Input. Power is supplied to the device through the IN pin. A bypass capacitor is required on this pin if the device is more than six inches away from the main input filter capacitor. In general, the output impedance of a (See Datasheet)", 3 GND (power) "Ground", 4 OUT (power) "Output. The output supplies power to the load. A minimum output capacitor (ceramic) of 10 uF is required to prevent oscillations. Larger output capacitors are required for applications with large transient loads to limit (See Datasheet)", 5 SENSE (in) "Sense. For fixed voltage versions of the TL1963A-xx (TL1963A-1.5, TL1963A-1.8,TL1963A-2.5, and TL1963A-3.3), the SENSE pin is the input to the error amplifier. Optimum regulation is obtained at the point where the SENSE pin (See Datasheet)", 6 GND (power) "For the KTT package, the exposed thermal pad is connected to ground and must be soldered to the PCB for rated thermal performance."

## TL1963A-25KTTT
designator U?
Single Output Low Noise LDO, 1.5 A, Fixed 2.5 V Output, 2.1 to 20 V Input, 5-pin DDPAK (KTT), -40 to 125 degC; Manufacturer: Texas Instruments; PartNumber: TL1963A-25KTTT; Accuracy(%): 3; Fixed Output Options(V): 2.5; Iout(Max)(A): 1.5; Iq(Typ)(mA): 1; SubFamily: Single Channel LDO; Vdo(Typ)(mV): 340; Vin(Max)(V): 20; Vin(Min)(V): 2.1; DatasheetVersion: SLVS719F; PackageVersion: 4200577-3/F; PackageReference: KTT5; PackageDescription: 3-Pin Plastic Flange Mount, Body 10.16 x 10.34 mm, Pitch 1.7 mm; Supplier 1: Mouser; Supplier Part Number 1: N/A; Vout Adj(Max)(V): 2.5; Vout Adj(Min)(V): 2.5; Mounting Technology: Surface Mount; Code_JEDEC: TO-263; ComponentLink1Description: Manufacturer URL; ComponentLink1URL: http://www.ti.com/; ComponentLink2Description: Datasheet; ComponentLink2URL: http://www.ti.com/general/docs/lit/getliterature.tsp?genericPartNumber=TL1963A-25&fileType=pdf; ComponentLink3Description: Package Specification; ComponentLink3URL: http://www.ti.com/litv/pdf/mpsf007e
footprint TI-KTT5_N (DPAK, 5-Leads, Body 10.16x8.925mm, Pitch 1.7mm, IPC Medium Density)
footprint TI-KTT5_L (DPAK, 5-Leads, Body 10.16x8.925mm, Pitch 1.7mm, IPC High Density)
footprint TI-KTT5_M (DPAK, 5-Leads, Body 10.16x8.925mm, Pitch 1.7mm, IPC Low Density)
pins: 1 ~{SHDN} (in) "Shutdown. The S\H\D\N\ pin is used to put the TL1963A-xx regulators into a low-power shutdown state. The output is off when the S\H\D\N\ pin is pulled low. The S\H\D\N\ pin can be driven either by 5-V logic or open-collector (See Datasheet)", 2 IN (power) "Input. Power is supplied to the device through the IN pin. A bypass capacitor is required on this pin if the device is more than six inches away from the main input filter capacitor. In general, the output impedance of a (See Datasheet)", 3 GND (power) "Ground", 4 OUT (power) "Output. The output supplies power to the load. A minimum output capacitor (ceramic) of 10 uF is required to prevent oscillations. Larger output capacitors are required for applications with large transient loads to limit (See Datasheet)", 5 SENSE (in) "Sense. For fixed voltage versions of the TL1963A-xx (TL1963A-1.5, TL1963A-1.8,TL1963A-2.5, and TL1963A-3.3), the SENSE pin is the input to the error amplifier. Optimum regulation is obtained at the point where the SENSE pin (See Datasheet)", 6 GND (power) "For the KTT package, the exposed thermal pad is connected to ground and must be soldered to the PCB for rated thermal performance."

## TL1963A-33DCQR
designator U?
Single Output Low Noise LDO, 1.5 A, Fixed 3.3 V Output, 2.1 to 20 V Input, 6-pin SOT-223 (DCQ), -40 to 125 degC, Green (RoHS & no Sb/Br); Manufacturer: Texas Instruments; PartNumber: TL1963A-33DCQR; Accuracy(%): 3; Fixed Output Options(V): 3.3; Iout(Max)(A): 1.5; Iq(Typ)(mA): 1; SubFamily: Single Channel LDO; Vdo(Typ)(mV): 340; Vin(Max)(V): 20; Vin(Min)(V): 2.1; DatasheetVersion: SLVS719F; PackageVersion: 4202109/D; PackageReference: DCQ6; PackageDescription: 6-Pin Plastic Small Outline, Body 3.5 x 6.5 mm, Pitch 1.27 mm; Supplier 1: Digi-Key; Supplier Part Number 1: 296-24534-2-ND; Supplier 2: Digi-Key; Supplier Part Number 2: 296-24534-1-ND; Supplier 3: Digi-Key; Supplier Part Number 3: 296-24534-6-ND; Supplier 4: Newark; Supplier Part Number 4: 25R0010; Supplier 5: Mouser; Supplier Part Number 5: 595-TL1963A-33DCQR; Eco-Plan: Green (RoHS & no Sb/Br); Vout Adj(Max)(V): 3.3; Vout Adj(Min)(V): 3.3; Mounting Technology: Surface Mount; ComponentLink1Description: Manufacturer URL; ComponentLink1URL: http://www.ti.com/; ComponentLink2Description: Datasheet; ComponentLink2URL: http://www.ti.com/general/docs/lit/getliterature.tsp?genericPartNumber=TL1963A-33&fileType=pdf; ComponentLink3Description: Package Specification; ComponentLink3URL: http://www.ti.com/litv/pdf/mpds098c
footprint TI-DCQ6_N (SOT223, 6-Leads, Body 6.5x3.5mm, Pitch 1.27mm, IPC Medium Density)
footprint TI-DCQ6_L (SOT223, 6-Leads, Body 6.5x3.5mm, Pitch 1.27mm, IPC High Density)
footprint TI-DCQ6_M (SOT223, 6-Leads, Body 6.5x3.5mm, Pitch 1.27mm, IPC Low Density)
pins: 1 ~{SHDN} (in) "Shutdown. S\H\D\N\ is used to put the TPS7A45xx regulators into a low-power shutdown state. The output is off when S\H\D\N\ is pulled low. S\H\D\N\ can be driven by 5-V logic, 3-V logic or open-collector logic with a pullup  (See Datasheet)", 2 IN (power) "Input. Power is supplied to the device through IN. A bypass capacitor is required on this pin if the device is more than six inches away from the main input filter capacitor. In general, the output impedance of a battery (See Datasheet)", 3 GND (power) "Ground", 4 OUT (power) "Output. The output supplies power to the load. A minimum output capacitor (ceramic) of 10 uF is required to  prevent oscillations. Larger output capacitors are required for applications with large transient loads to limit (See Datasheet)", 5 SENSE (in) "Sense. For fixed-voltage versions (TPS7A4515, TPS7A4518, TPS7A4525, and TPS7A4533), SENSE is the input to the error amplifier. Optimum regulation is obtained at the point where SENSE is connected to the OUT pin of the (See Datasheet)", 6 GND (power) "Ground. DCQ package only."

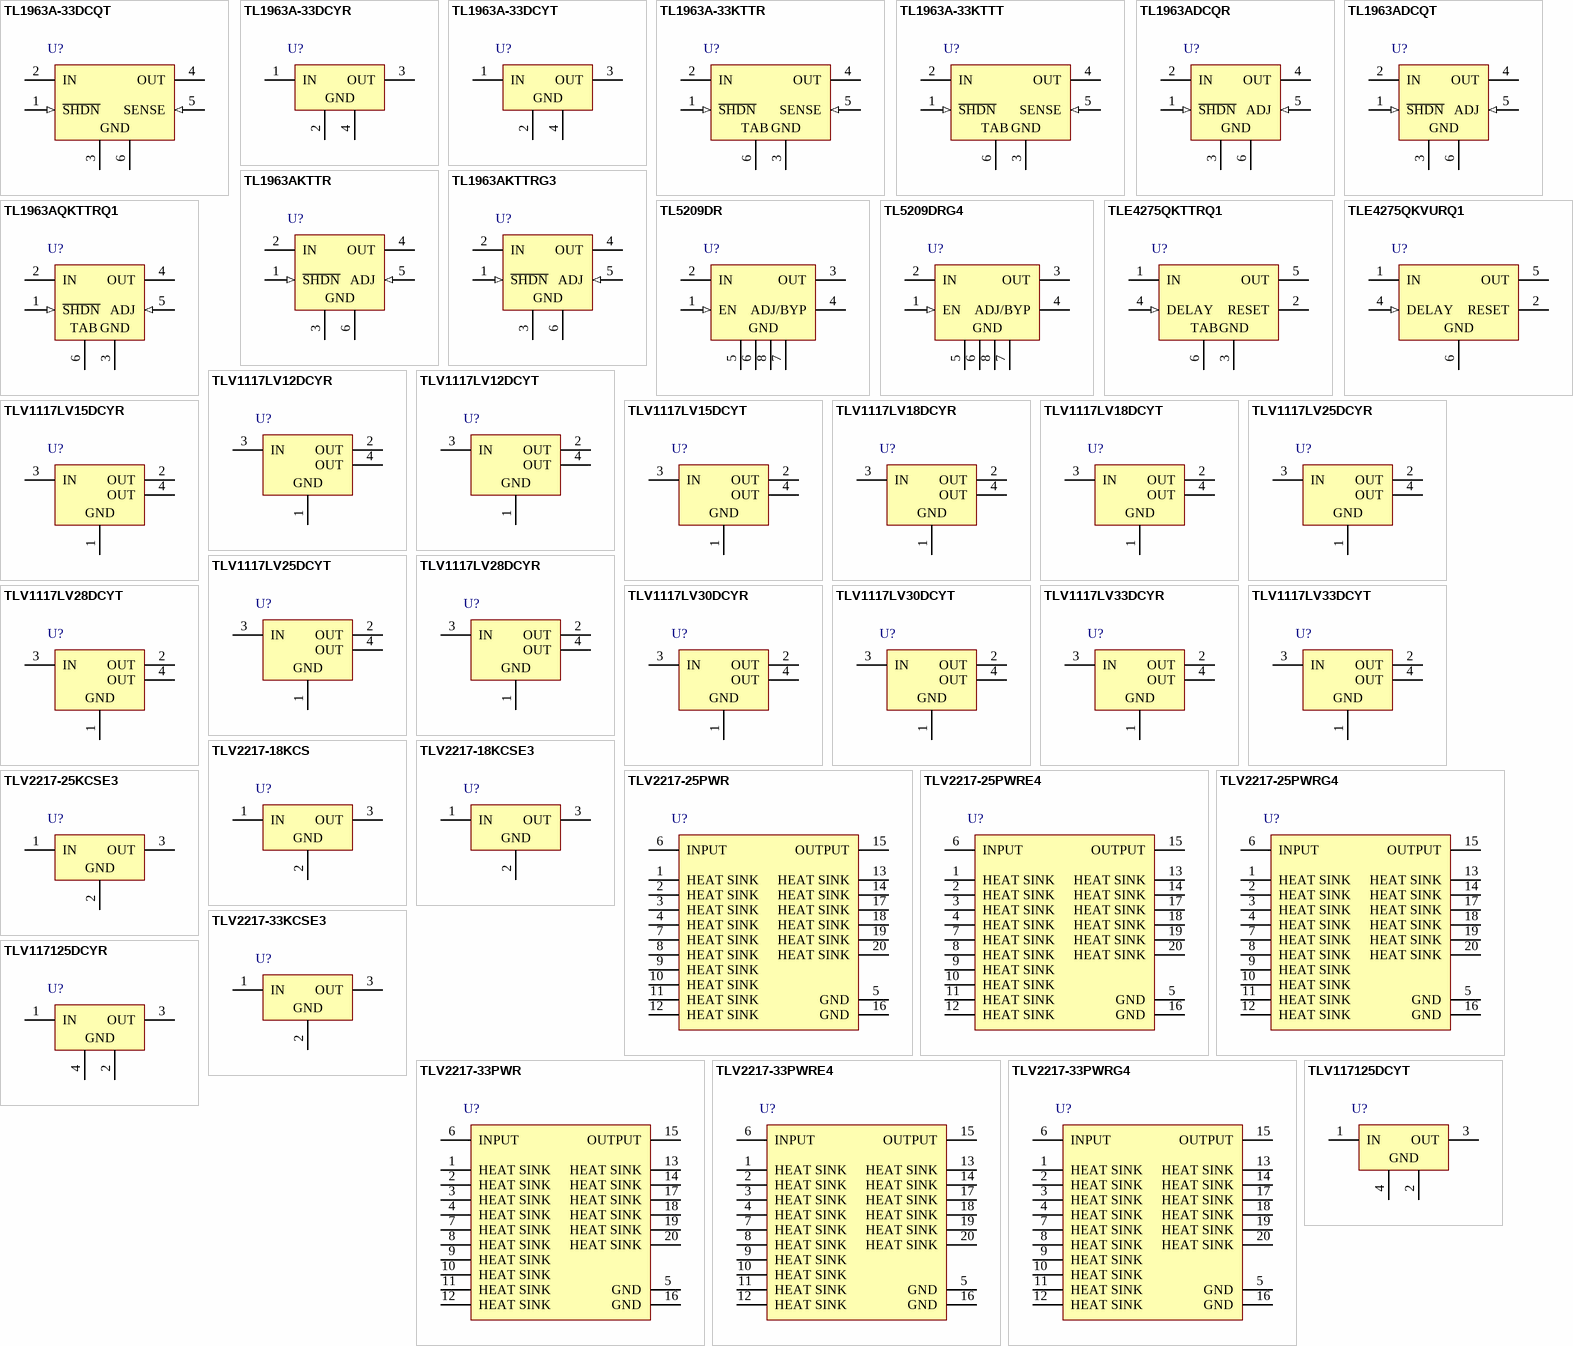
[diagram p5: symbols TL1963A-33DCQT to TLV117125DCYT]

## TL1963A-33DCQT
designator U?
Single Output Low Noise LDO, 1.5 A, Fixed 3.3 V Output, 2.1 to 20 V Input, 6-pin SOT-223 (DCQ), Green (RoHS & no Sb/Br); Manufacturer: Texas Instruments; PartNumber: TL1963A-33DCQT; Accuracy(%): 3; Fixed Output Options(V): 3.3; Iout(Max)(A): 1.5; Iq(Typ)(mA): 1; SubFamily: Single Channel LDO; Vdo(Typ)(mV): 340; Vin(Max)(V): 20; Vin(Min)(V): 2.1; DatasheetVersion: SLVS719F; PackageVersion: 4202109/D; PackageReference: DCQ6; PackageDescription: 6-Pin Plastic Small Outline, Body 3.5 x 6.5 mm, Pitch 1.27 mm; Supplier 1: Digi-Key; Supplier Part Number 1: 296-32342-2-ND; Supplier 2: Digi-Key; Supplier Part Number 2: 296-32342-1-ND; Supplier 3: Digi-Key; Supplier Part Number 3: 296-32342-6-ND; Supplier 4: Mouser; Supplier Part Number 4: 595-TL1963A-33DCQT; Eco-Plan: Green (RoHS & no Sb/Br); Vout Adj(Max)(V): 3.3; Vout Adj(Min)(V): 3.3; Mounting Technology: Surface Mount; ComponentLink1Description: Manufacturer URL; ComponentLink1URL: http://www.ti.com/; ComponentLink2Description: Datasheet; ComponentLink2URL: http://www.ti.com/general/docs/lit/getliterature.tsp?genericPartNumber=TL1963A-33&fileType=pdf; ComponentLink3Description: Package Specification; ComponentLink3URL: http://www.ti.com/litv/pdf/mpds098c
footprint TI-DCQ6_N (SOT223, 6-Leads, Body 6.5x3.5mm, Pitch 1.27mm, IPC Medium Density)
footprint TI-DCQ6_L (SOT223, 6-Leads, Body 6.5x3.5mm, Pitch 1.27mm, IPC High Density)
footprint TI-DCQ6_M (SOT223, 6-Leads, Body 6.5x3.5mm, Pitch 1.27mm, IPC Low Density)
pins: 1 ~{SHDN} (in) "Shutdown. S\H\D\N\ is used to put the TPS7A45xx regulators into a low-power shutdown state. The output is off when S\H\D\N\ is pulled low. S\H\D\N\ can be driven by 5-V logic, 3-V logic or open-collector logic with a pullup  (See Datasheet)", 2 IN (power) "Input. Power is supplied to the device through IN. A bypass capacitor is required on this pin if the device is more than six inches away from the main input filter capacitor. In general, the output impedance of a battery (See Datasheet)", 3 GND (power) "Ground", 4 OUT (power) "Output. The output supplies power to the load. A minimum output capacitor (ceramic) of 10 uF is required to  prevent oscillations. Larger output capacitors are required for applications with large transient loads to limit (See Datasheet)", 5 SENSE (in) "Sense. For fixed-voltage versions (TPS7A4515, TPS7A4518, TPS7A4525, and TPS7A4533), SENSE is the input to the error amplifier. Optimum regulation is obtained at the point where SENSE is connected to the OUT pin of the (See Datasheet)", 6 GND (power) "Ground. DCQ package only."

## TL1963A-33DCYR
designator U?
Single Output Low Noise LDO, 1.5 A, Fixed 3.3 V Output, 2.1 to 20 V Input, 4-pin SOT-223 (DCY), -40 to 125 degC, Green (RoHS & no Sb/Br); Manufacturer: Texas Instruments; PartNumber: TL1963A-33DCYR; Accuracy(%): 3; Fixed Output Options(V): 3.3; Iout(Max)(A): 1.5; Iq(Typ)(mA): 1; SubFamily: Single Channel LDO; Vdo(Typ)(mV): 340; Vin(Max)(V): 20; Vin(Min)(V): 2.1; DatasheetVersion: SLVS719F; PackageVersion: 4202506/B; PackageReference: DCY4; PackageDescription: 4-Pin Plastic Small Outline, Body 3.5 x 6.5 mm, Pitch 2.3 mm; Supplier 1: Digi-Key; Supplier Part Number 1: 296-24897-2-ND; Supplier 2: Digi-Key; Supplier Part Number 2: 296-24897-1-ND; Supplier 3: Digi-Key; Supplier Part Number 3: 296-24897-6-ND; Supplier 4: Farnell; Supplier Part Number 4: 2280017; Supplier 5: Newark; Supplier Part Number 5: 94T5083; Supplier 6: Newark; Supplier Part Number 6: 50R8019; Supplier 7: Mouser; Supplier Part Number 7: 595-TL1963A-33DCYR; Eco-Plan: Green (RoHS & no Sb/Br); Vout Adj(Max)(V): 3.3; Vout Adj(Min)(V): 3.3; Mounting Technology: Surface Mount; Code_JEDEC: TO-261; ComponentLink1Description: Manufacturer URL; ComponentLink1URL: http://www.ti.com/; ComponentLink2Description: Datasheet; ComponentLink2URL: http://www.ti.com/general/docs/lit/getliterature.tsp?genericPartNumber=TL1963A-33&fileType=pdf; ComponentLink3Description: Package Specification; ComponentLink3URL: http://www.ti.com/litv/pdf/mpds094a
footprint TI-DCY4_N (SOT223, 4-Leads, Body 6.5x3.5mm, Pitch 2.3mm, IPC Medium Density)
footprint TI-DCY4_L (SOT223, 4-Leads, Body 6.5x3.5mm, Pitch 2.3mm, IPC High Density)
footprint TI-DCY4_M (SOT223, 4-Leads, Body 6.5x3.5mm, Pitch 2.3mm, IPC Low Density)
pins: 1 IN (power) "Input. Power is supplied to the device through the IN pin. A bypass capacitor is required on this pin if the device is more than six inches away from the main input filter capacitor. In general, the output impedance of a (See Datasheet)", 2 GND (power) "Ground", 3 OUT (power) "Output. The output supplies power to the load. A minimum output capacitor (ceramic) of 10 uF is required to prevent oscillations. Larger output capacitors are required for applications with large transient loads to limit (See Datasheet)", 4 GND (power) "Ground"